# Altium integrated library magicoil_adc_board_september.IntLib: 77 symbols
Pins are listed as number, name and electrical type; pins without a type are passive.

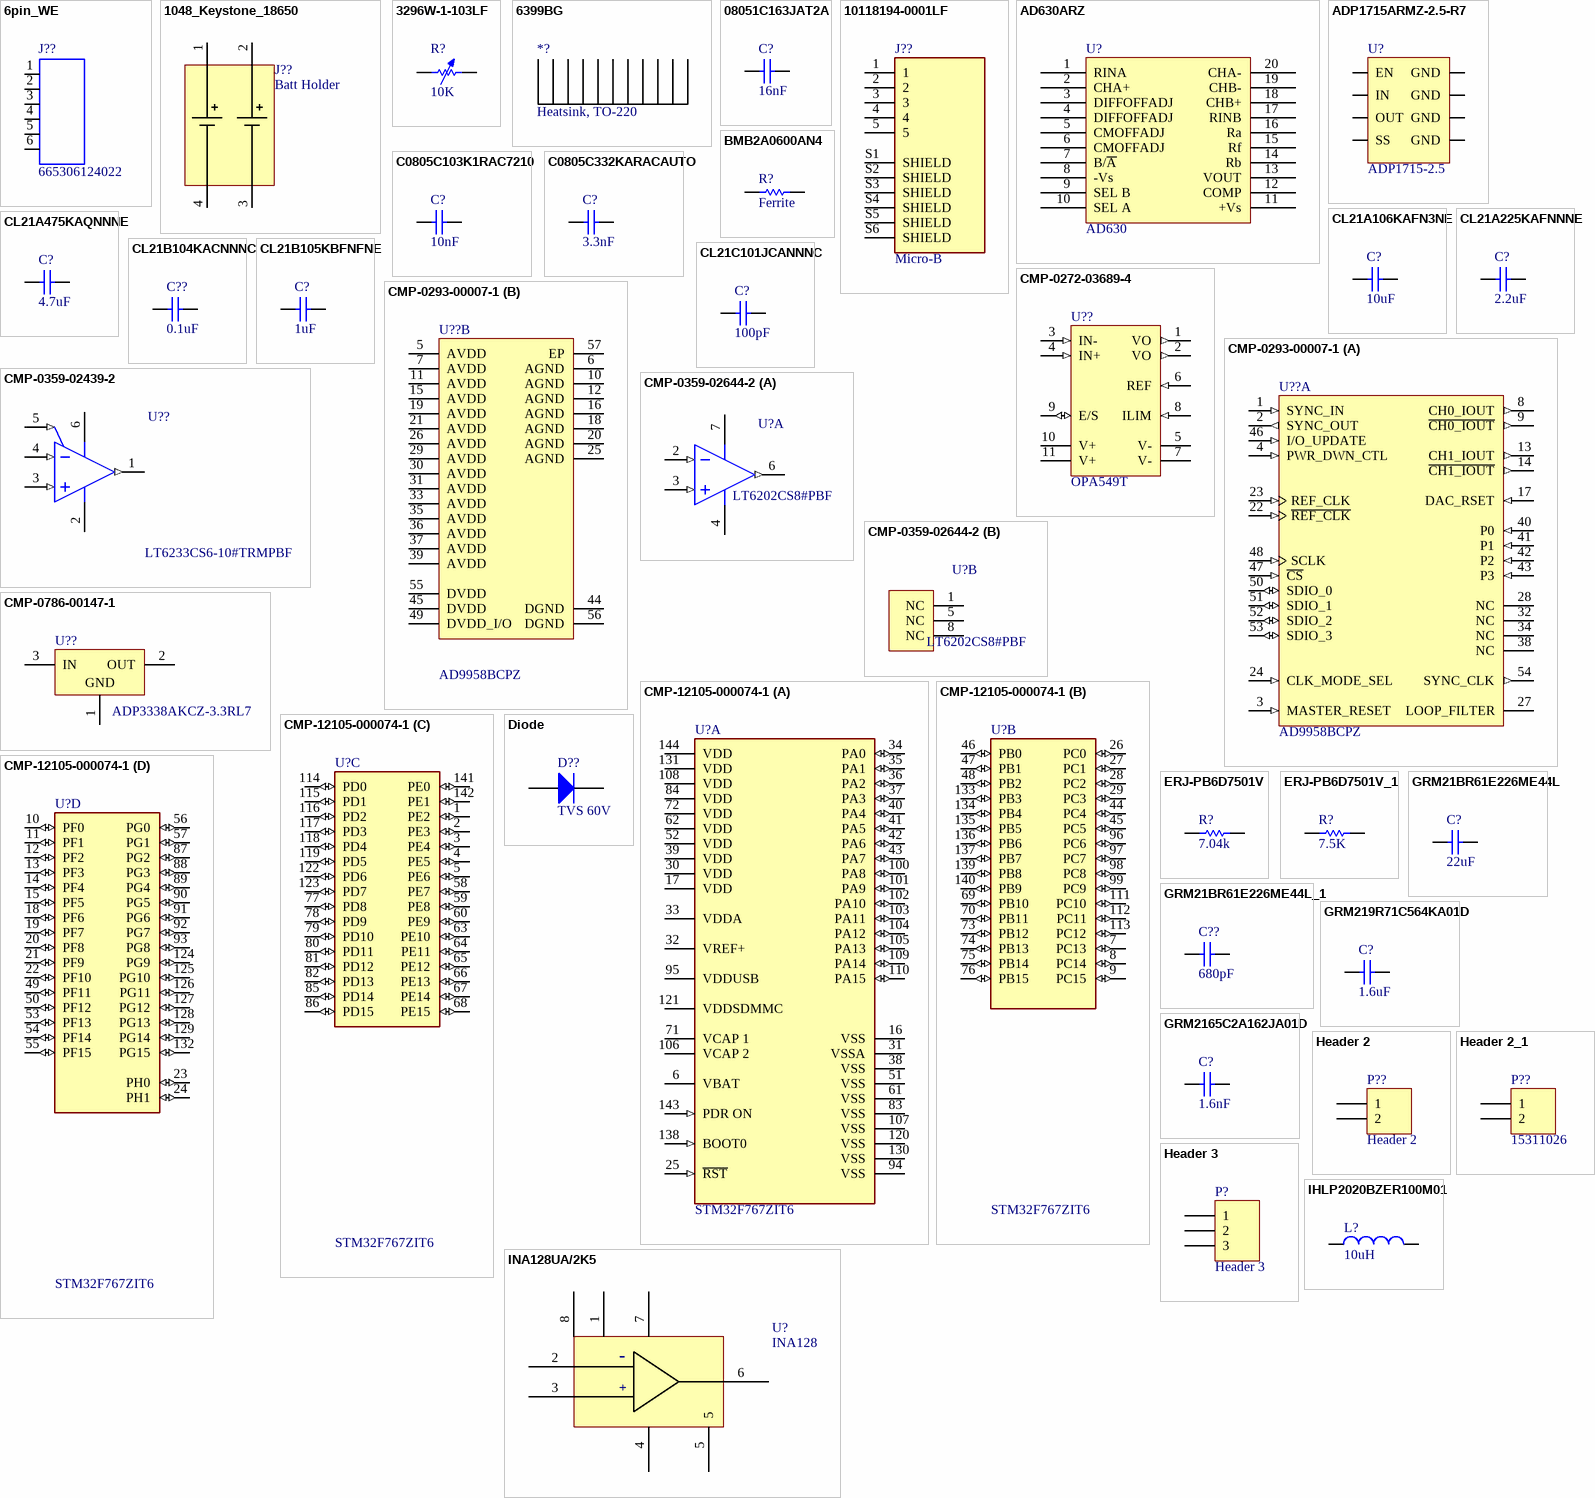
[diagram p0: symbols 6pin_WE to INA128UA/2K5]

## 6pin_WE
designator J??, comment 665306124022
Connector Header Surface Mount 6 position 0.039 (1.00mm); MF: WÃ¼rth Elektronik; Check_prices: https://www.snapeda.com/parts/665306124022/W%C3%BCrth%20Elektronik/view-part/1276936/?ref=eda; Price: None; Value: *; Availability: Warning; Package: None; Purchase-URL: https://pricing.snapeda.com/search/part/665306124022/?ref=eda; MP: 665306124022; SnapEDA_Link: https://www.snapeda.com/parts/665306124022/W%C3%BCrth%20Elektronik/view-part/1276936/?ref=snap
footprint 665306124022
pins: 1, 2, 3, 4, 5, 6

## 1048_Keystone_18650
designator J??, comment Batt Holder
pins: 1, 2, 3, 4

## 3296W-1-103LF
designator R?, comment 10K
Variable Resistor; MFGPN: 3296W-1-103LF
footprint TRIMRES
pins: 1, 2

## 6399BG
designator *?, comment Heatsink, TO-220
Heavy duty heatsink; MFGPN: 6399BG

## 08051C163JAT2A
designator C?, comment 16nF
Capacitor, 16nF, 0805, 25V; MFGPN: 08051C163JAT2A; Value: 16nF
footprint STD_0805_C
pins: 1, 2

## 10118194-0001LF
designator J??, comment Micro-B
USB - micro B USB 2.0 Receptacle Connector 5 Position Surface Mount, Right Angle; Through Hole; MFGPN: 10118194-0001LF
footprint 10118194-0001LF
pins: 1, 2, 3, 4, 5, S1 SHIELD, S2 SHIELD, S3 SHIELD, S4 SHIELD, S5 SHIELD, S6 SHIELD

## AD630ARZ
designator U?, comment AD630
RF MOD/DEMOD
footprint SOIC_20
pins: 1 RINA, 2 CHA+, 3 DIFFOFFADJ, 4 DIFFOFFADJ, 5 CMOFFADJ, 6 CMOFFADJ, 7 B/~{A}, 8 -Vs, 9 SEL B, 10 SEL A, 11 +Vs, 12 COMP, 13 VOUT, 14 Rb, 15 Rf, 16 Ra, 17 RINB, 18 CHB+, 19 CHB-, 20 CHA-

## ADP1715ARMZ-2.5-R7
designator U?, comment ADP1715-2.5
2.5V linear regulator; MFGPN: ADP1715ARMZ-2.5-R7
footprint MSOP_8
pins: 1 EN, 2 IN, 3 OUT, 4 SS, 5 GND, 6 GND, 7 GND, 8 GND

## BMB2A0600AN4
designator R?, comment Ferrite
Ferrite 0805; MFGPN: BMB2A0600AN4
footprint STD_0805_R
pins: 1, 2

## C0805C103K1RAC7210
designator C?, comment 10nF
Capacitor, 10nF, 0805; Value: .01uf; MFGPN: C0805C103K1RAC7210
footprint STD_0805_C
pins: 1, 2

## C0805C332KARACAUTO
designator C?, comment 3.3nF
Capacitor, 3.3nF, 0805; Value: .01uf; MFGPN: C0805C332KARACAUTO
footprint STD_0805_C
pins: 1, 2

## CL21A106KAFN3NE
designator C?, comment 10uF
Capacitor, 10uF, 0805; Value: .01uf; MFGPN: CL21A106KAFN3NE
footprint STD_0805_C
pins: 1, 2

## CL21A225KAFNNNE
designator C?, comment 2.2uF
Capacitor, 2.2uF, 0805; Value: .01uf; MFGPN: CL21A225KAFNNNE
footprint STD_0805_C
pins: 1, 2

## CL21A475KAQNNNE
designator C?, comment 4.7uF
Capacitor, 4.7uF, 0805; Value: .01uf; MFGPN: CL21A475KAQNNNE
footprint STD_0805_C
pins: 1, 2

## CL21B104KACNNNC
designator C??, comment 0.1uF
Capacitor, 0.1uF, 0805; Value: .01uf; MFGPN: CL21B104KACNNNC
footprint STD_0805_C
pins: 1, 2

## CL21B105KBFNFNE
designator C?, comment 1uF
Capacitor, 1uF, 0805; Value: .01uf; MFGPN: CL21B105KBFNFNE
footprint STD_0805_C
pins: 1, 2

## CL21C101JCANNNC
designator C?, comment 100pF
Capacitor, 100pF, 0805; Value: .01uf; MFGPN: CL21C101JCANNNC
footprint STD_0805_C
pins: 1, 2

## CMP-0272-03689-4
designator U??, comment OPA549T
High-Voltage, High-Current Operational Amplifier, Excellent Output Swing, 8 to 60 V, -40 to 125 degC, 11-pin FM (KV), Green (RoHS & no Sb/Br); Manufacturer: Texas Instruments; Number of Channels: 1; CMRR(Min)(dB): 80; Rating: Military; Iq per channel(Max)(mA): 35; Total Supply Voltage(Min)(+5V is 5, +/-5V is 10): 8; Packing: TUBE; GBW(Typ)(MHz): 0.9; Total Supply Voltage(Max)(+5V is 5, +/-5V is 10): 60; Vio (25C)(Max)(mV): 5; Offset Drift(Typ)(uV/C): 20; Slew Rate(Typ)(V/us): 9; IIB(Max)(pA): 500000; Sub Family: High Output Current Amplifier (>=50mA), High Supply Voltage Amplifier (>=30V), Precision Amplifier; DatasheetVersion: SBOS093E; ComponentLink1URL: http://www.ti.com/; PartNumber: OPA549T; PackageVersion: 4202503/C, 06/2009; ComponentLink2URL: http://www.ti.com/lit/ds/symlink/opa549.pdf; Eco-Plan: Green (RoHS & no Sb/Br); Mounting Technology: Through Hole; Code_JEDEC: MO-48-AA; ComponentLink2Description: Datasheet; ComponentLink3Description: Package Specification; PackageReference: KV0011A; PackageDescription: 11-Pin Plastic Flange Mount, Body 20.015 x 4.495 mm, Pitch 1.7 mm; ComponentLink1Description: Manufacturer URL; ComponentLink3URL: http://www.ti.com/litv/pdf/mpzf003b; Manufacturer Part Number: OPA549T
footprint KV0011A (FM, 11-Leads, Body 20.015x4.495mm, Pitch 1.7mm)
pins: 1 VO (out), 2 VO (out), 3 IN- (in), 4 IN+ (in), 5 V- (power), 6 REF (in), 7 V- (power), 8 ILIM (in), 9 E/S (io), 10 V+ (power), 11 V+ (power)

## CMP-0293-00007-1
designator U??, comment AD9958BCPZ
2-Channel, 500 MSPS DDS with 10-Bit DACs, Serial, CP-56-1, 260 Tray, Pb-Free; Manufacturer: Analog Devices; I Supply total (max): 105mA; Tuning Word Width (bits): 32bit; Master fclk: 500MHz; Resolution (Bits): 10bit; FS Iout (mA nom): 10mA; Compliance Range (V): 2.3V; REFCLK Multiplier: Yes; PackageVersion: 112805-0; I/O Interface: Serial; ComponentLink2Description: Datasheet; ComponentLink1Description: Manufacturer URL; ComponentLink1URL: www.analog.com; PackageDescription: 56-Lead Lead Frame Chip Scale Package [LFCSP_VQ]; ComponentLink2URL: http://www.analog.com/static/imported-files/data_sheets/AD9958.pdf; ComponentLink3URL: http://www.analog.com/static/imported-files/packages/32698137492825CP_56_1.pdf; PackageReference: CP-56-1; Code_JEDEC: MO-220-VLLD-2; DatasheetVersion: Rev. A; ComponentLink3Description: Package Specification; Manufacturer Part Number: AD9958BCPZ
footprint ADI-CP-56-1_N (QFN, 56-Leads, Body 8x8mm, Pitch 0.5mm, Thermal Pad 6.1x6.1mm, IPC Medium Density)
footprint ADI-CP-56-1_L (QFN, 56-Leads, Body 8x8mm, Pitch 0.5mm, Thermal Pad 6.1x6.1mm, IPC High Density)
footprint ADI-CP-56-1_M (QFN, 56-Leads, Body 8x8mm, Pitch 0.5mm, Thermal Pad 6.1x6.1mm, IPC Low Density)
part A pins: 1 SYNC_IN (in) "Synchronizes Multiple AD9911 Devices. Connects to the SYNC_OUT pin of the master AD9911 device.", 2 SYNC_OUT (out) "Synchronizes Multiple AD9911 Devices. Connects to the SYNC_IN pin of the slave AD9911 device.", 3 MASTER_RESET (in) "Active High Reset Pin. Asserting this pin forces the internal registers to the default state shown in the Register Map section.", 4 PWR_DWN_CTL (in) "External Power-Down Control. See the Power Down Functions section for details.", 8 CH0_IOUT (out) "True DAC Output. Terminates into AVDD.", 9 ~{CH0_IOUT} (out) "Complementary DAC Output. Terminates into AVDD.", 13 CH1_IOUT (out) "True DAC Output. Terminates into AVDD.", 14 ~{CH1_IOUT} (out) "Complementary DAC Output. Terminates into AVDD.", 17 DAC_RSET (in) "Establishes the Reference Current for the DAC. A 1.91 k ohm resistor (nominal) is connected from Pin 17 to AGND.", 22 ~{REF_CLK} (in) "Complementary Reference Clock/Oscillator Input. When the REF_CLK is operated in single-ended mode, this pin should be decoupled to AVDD or AGND with a  0.1 uF capacitor.", 23 REF_CLK (in) "Reference Clock/Oscillator Input. When the REF_CLK operates in single-ended mode, Pin 23 is the input. See the Modes of Operation section for the reference clock configuration.", 24 CLK_MODE_SEL (in) "Control Pin for the Oscillator. CAUTION: Do not drive this pin beyond 1.8 V. When high (1.8 V), the oscillator is enabled to accept a crystal as the REF_CLK source. [see datasheet]", 27 LOOP_FILTER "Connects to the External Zero Compensation Network of the PLL Loop Filter. Typically, the network consists of a 0  ohm resistor in series with a 680 pF capacitor tied to AVDD.", 28 NC "No Connection. Analog Devices recommends leaving these pins floating.", 32 NC "No Connection. Analog Devices recommends leaving these pins floating.", 34 NC "No Connection.", 38 NC "No Connection.", 40 P0 (in) "These data pins are used for modulation (FSK, PSK, ASK), start/stop for the sweep accumulator, and ramping up/down the output amplitude. [see datasheet]", 41 P1 (in) "These data pins are used for modulation (FSK, PSK, ASK), start/stop for the sweep accumulator, and ramping up/down the output amplitude. [see datasheet]", 42 P2 (in) "These data pins are used for modulation (FSK, PSK, ASK), start/stop for the sweep accumulator, and ramping up/down the output amplitude. [see datasheet]", 43 P3 (in) "These data pins are used for modulation (FSK, PSK, ASK), start/stop for the sweep accumulator, and ramping up/down the output amplitude. [see datasheet]", 46 I/O_UPDATE (in) "A rising edge triggers data transfer from the I/O port buffer to active registers. I/O_UPDATE is synchronous to the SYNC_CLK (Pin 54). [see datasheet]", 47 ~{CS} (in) "The active low chip select allows multiple devices to share a common I/O bus (SPI).", 48 SCLK (in) "Data Clock for I/O Operations. Data bits are written on the rising edge of SCLK and read on the falling edge of SCLK.", 50 SDIO_0 (io) "Data pin SDIO_0 is dedicated to the I/O port only.", 51 SDIO_1 (io) "Data pins SDIO_1:3 can be used for the I/O port or to initiate a ramp up/ramp down (RU/RD) of the DAC output amplitude.", 52 SDIO_2 (io) "Data pins SDIO_1:3 can be used for the I/O port or to initiate a ramp up/ramp down (RU/RD) of the DAC output amplitude.", 53 SDIO_3 (io) "Data pins SDIO_1:3 can be used for the I/O port or to initiate a ramp up/ramp down (RU/RD) of the DAC output amplitude.", 54 SYNC_CLK (out) "The SYNC_CLK, which runs at 1/4 the system clock rate, can be disabled. I/O_UPDATE and profile changes (Pin 40 to Pin 43) are synchronous to the SYNC_CLK. [see datasheet]"
part B pins: 5 AVDD (power) "Analog Power Supply Pins (1.8 V).", 6 AGND (power) "Analog Ground Pins.", 7 AVDD (power) "Analog Power Supply Pins (1.8 V).", 10 AGND (power) "Analog Ground Pins.", 11 AVDD (power) "Analog Power Supply Pins (1.8 V).", 12 AGND (power) "Analog Ground Pins.", 15 AVDD (power) "Analog Power Supply Pins (1.8 V).", 16 AGND (power) "Analog Ground Pins.", 18 AGND (power) "Analog Ground Pins.", 19 AVDD (power) "Analog Power Supply Pins (1.8 V).", 20 AGND (power) "Analog Ground Pins.", 21 AVDD (power) "Analog Power Supply Pins (1.8 V).", 25 AGND (power) "Analog Ground Pins.", 26 AVDD (power) "Analog Power Supply Pins (1.8 V).", 29 AVDD (power) "Analog Power Supply Pins (1.8 V).", 30 AVDD (power) "Analog Power Supply Pins (1.8 V).", 31 AVDD (power) "Analog Power Supply Pins (1.8 V).", 33 AVDD (power) "Analog Power Supply Pins (1.8 V).", 35 AVDD (power) "Analog Power Supply Pins (1.8 V).", 36 AVDD (power) "Analog Power Supply Pins (1.8 V).", 37 AVDD (power) "Analog Power Supply Pins (1.8 V).", 39 AVDD (power) "Analog Power Supply Pins (1.8 V).", 44 DGND (power) "Digital Power Ground Pins.", 45 DVDD (power) "Digital Power Supply Pins (1.8 V).", 49 DVDD_I/O (power) "3.3 V Digital Power Supply for SPI Port and Digital I/O.", 55 DVDD (power) "Digital Power Supply Pins (1.8 V).", 56 DGND (power) "Digital Power Ground Pins.", 57 EP (power) "Exposed pad"

## CMP-0359-02439-2
designator U??, comment LT6233CS6-10#TRMPBF
Single Channel, Ultralow Noise, Low Power, High Speed Operational Amplifier, 375 MHz Typical GBW, 80 V/us Typical SR, 3 to 12.6 V, 6-Pin SOT23 (S6-6), Commercial, Pb-Free, Mini Reel; Linear Technology Part Number: LT6233; Manufacturer: Linear Technology; Manufacturer: Analog Devices / Linear Technology; Vs Max (V): 12.6; Vos (mV) Guaranteed: 0.5; Vos (mV) Typical: 0.1; Channels (#): 1; Vs Min (V): 3; GBW (MHz) Typical: 60; SR (V/us) Typical: 15; Is (mA) Typical: 1.15; ComponentLink3Description: Package Specification; Type: VFB; Mounting Technology: Surface Mount; PackageDescription: 6-Pin Plastic TSOT-23, Body 2.9 x 1.63 mm, Pitch 0.95 mm; ComponentLink2URL: http://cds.linear.com/docs/en/datasheet/623345fc.pdf; ComponentLink1URL: http://www.linear.com/; Packing: Mini Reel; ComponentLink1Description: Manufacturer URL; PartNumber: LT6233CS6-10#TRMPBF; ComponentLink3URL: http://cds.linear.com/docs/en/packaging/SOT_6_05-08-1636.pdf; DatasheetVersion: Rev. C; Code_JEDEC: MO-193; RevisionNote: URLs updated; RoHS: Pb-Free; PackageReference: LT-S6-6-TSOT-23; ComponentLink2Description: Datasheet; Manufacturer Part Number: LT6233CS6-10#TRMPBF
footprint LT-S6-6-TSOT-23_N (SOT23, 6-Leads, Body 2.90x1.63mm, Pitch 0.95mm, IPC Medium Density)
footprint LT-S6-6-TSOT-23_M (SOT23, 6-Leads, Body 2.90x1.63mm, Pitch 0.95mm, IPC Low Density)
footprint LT-S6-6-TSOT-23_L (SOT23, 6-Leads, Body 2.90x1.63mm, Pitch 0.95mm, IPC High Density)
pins: 1 OUT (out), 2 V- (power), 3 +IN (in), 4 -IN (in), 5 ~{ENABLE} (in), 6 V+ (power)

## CMP-0359-02644-2
designator U?, comment LT6202CS8#PBF
Single Channel, Low Noise, High Speed Operational Amplifier, RRIO, 100 MHz Typical GBW, 25 V/us Typical SR, 2.5 to 12.6 V, 8-Pin SOIC (S8-8), Commercial, Pb-Free; Linear Technology Part Number: LT6202; Manufacturer: Linear Technology; Manufacturer: Analog Devices / Linear Technology; Channels (#): 1; Vs Min (V): 2.5; Is (mA) Typical: 2.8; Vos (mV) Typical: 0.1; Vos (mV) Guaranteed: 0.5; GBW (MHz) Typical: 100; Vs Max (V): 12.6; SR (V/us) Typical: 25; RevisionNote: URLs updated; ComponentLink2URL: http://cds.linear.com/docs/en/datasheet/620234fd.pdf; PackageDescription: 8-Pin Plastic Small Outline, Body 4.9 x 3.9 mm, Pitch 1.27 mm; RoHS: Pb-Free; ComponentLink3Description: Package Specification; ComponentLink2Description: Datasheet; PackageVersion: Rev G; ComponentLink3URL: http://cds.linear.com/docs/en/packaging/05081610_G_SO8.pdf; ComponentLink1Description: Manufacturer URL; DatasheetVersion: Rev. D; PackageReference: LT-S8-8; Mounting Technology: Surface Mount; ComponentLink1URL: http://www.linear.com/; Type: VFB; PartNumber: LT6202CS8#PBF; Manufacturer Part Number: LT6202CS8#PBF
footprint LT-S8-8_N (SOIC, 8-Leads, Body 4.9x3.9mm, Pitch 1.27mm, IPC Medium Density)
footprint LT-S8-8_M (SOIC, 8-Leads, Body 4.9x3.9mm, Pitch 1.27mm, IPC Low Density)
footprint LT-S8-8_L (SOIC, 8-Leads, Body 4.9x3.9mm, Pitch 1.27mm, IPC High Density)
part A pins: 2 -IN (in), 3 +IN (in), 4 V- (power), 6 OUT (out), 7 V+ (power)
part B pins: 1 NC (power), 5 NC (power), 8 NC (power)

## CMP-0786-00147-1
designator U??, comment ADP3338AKCZ-3.3RL7
High Accuracy, Ultralow IQ, 1 A, anyCAP(R) Low Dropout Regulator, 2.7 to 8 V Vin, 3.3 V Vout, Industrial, 3-pin SOT223 (KC-3), Reel; Manufacturer: Analog Devices; Supply Current IGND @ Small Load: 110uA; Vin (min) (V): 2.7; Preset Vout Values (V): 3.3; Iout max: 1A; Vin (max) (V): 8; PackageDescription: 3-Pin Small Outline Transistor Package, Body 3.5 x 6.5 mm, Pitch 2.3 mm; Code_JEDEC: TO-261-AA; ComponentLink4Description: URL Link1; ComponentLink4URL: Product URL:http://www.analog.com/en/ADP3338/productSearch.html; PackageVersion: 11-20-2012-B, 11/2012; DatasheetVersion: Rev. B; ComponentLink3URL: http:/www.analog.com/static/imported-files/packages/PKG_PDF/SOT_223(KC)/KC_3.pdf; Mounting Technology: Surface Mount; ComponentLink2URL: http://www.analog.com/static/imported-files/data_sheets/ADP3338.pdf; PartNumber: ADP3338AKCZ-3.3RL7; ComponentLink2Description: Datasheet; ComponentLink3Description: Package Specification; ComponentLink1Description: Manufacturer URL; Packing: Reel; PackageReference: KC-3; ComponentLink1URL: http://www.analog.com/en/index.html; Manufacturer Part Number: ADP3338AKCZ-3.3RL7
footprint ADI-KC-3_M (SOT223, 4-Leads, Body 6.5x3.5mm, Pitch 2.3mm, IPC Low Density)
footprint ADI-KC-3_L (SOT223, 4-Leads, Body 6.5x3.5mm, Pitch 2.3mm, IPC High Density)
footprint ADI-KC-3_N (SOT223, 4-Leads, Body 6.5x3.5mm, Pitch 2.3mm, IPC Medium Density)
pins: 1 GND (power) "Ground Pin.", 2 OUT (power) "Regulator Output. Bypass to ground with a 1 uF or larger capacitor.", 3 IN (power) "Regulator Input. Bypass to ground with a 1 uF or larger capacitor."

## CMP-12105-000074-1
designator U?, comment STM32F767ZIT6
IC MCU 32BIT 2MB FLASH 144LQFP; Manufacturer: STMicroelectronics; Ram Size: 512KBytes; Number Of I/Os: 114; Core Architecture: ARM Cortex-M7; Memory Size: 2048KBytes; Standoff Height: 0.05mm; Number Of Adc Channels: 24; Max Supply Voltage: 3.6V; Number Of Pwm Channels: 4; Min Supply Voltage: 1.7V; Max Junction Temp: +105°C; Number Of Timers/Counters: 15; Number Of Usb Channels: 1; Interface: I2C,SPI,UART,USART,EBI/EMI,CAN,USB,LIN,IrDA,Ethernet,I2S; Frequency: 216MHz; Data Bus Width: 32bits; Number Of Spi Channels: 6; Number Of A/D Converters: 3; Octopart: https://octopart.com/stm32f767zit6-stmicroelectronics-70527068; Category: IC; Device Class L2: Embedded Processors and Controllers; Package: LQFP144-1A; RoHS: TRUE; Digikey Description: IC MCU 32BIT 2MB FLASH 144LQFP; ComponentLink2Description: Datasheet; Automotive: No; Mouser Description: ARM Microcontrollers - MCU High-performance and DSP with FPU, ARM Cortex-M7 MCU with 2 Mbytes Flash, 216 MHz CPU, Art Accelerator, L1 cache, SDRAM,; Ambient Temperature Range Low: -40°C; Ambient Temperature Range High: +85°C; Memory Type: FLASH; ComponentLink2URL: https://www.st.com/resource/en/datasheet/stm32f767zi.pdf; Number Of Uart Channels: 4; Temperature: -40°C to +85°C; Device Class L3: Microcontrollers; Device Class L1: Integrated Circuits (ICs); Temperature Range Low: -40°C; Temperature Range High: +85°C; Lead Free: Yes; Number Of I2C Channels: 4; Number Of Ethernet Channels: 1; Height: 1.6mm; Number Of Cores: 1; Manufacturer Part Number: STM32F767ZIT6; Ipc Land Pattern Name: QFP50P2200X2200X160-144
footprint FP-LQFP144-1A-MFG
footprint FP-LQFP144-1A-IPC_C
footprint FP-LQFP144-1A-IPC_B
footprint FP-LQFP144-1A-IPC_A
part A pins: 6 VBAT (power), 16 VSS (power), 17 VDD (power), 25 ~{RST} (in), 30 VDD (power), 31 VSSA (power), 32 VREF+ (power), 33 VDDA (power), 34 PA0 (io), 35 PA1 (io), 36 PA2 (io), 37 PA3 (io), 38 VSS (power), 39 VDD (power), 40 PA4 (io), 41 PA5 (io), 42 PA6 (io), 43 PA7 (io), 51 VSS (power), 52 VDD (power), 61 VSS (power), 62 VDD (power), 71 VCAP 1 (power), 72 VDD (power), 83 VSS (power), 84 VDD (power), 94 VSS (power), 95 VDDUSB (power), 100 PA8 (io), 101 PA9 (io), 102 PA10 (io), 103 PA11 (io), 104 PA12 (io), 105 PA13 (io), 106 VCAP 2 (power), 107 VSS (power), 108 VDD (power), 109 PA14 (io), 110 PA15 (io), 120 VSS (power), 121 VDDSDMMC (power), 130 VSS (power), 131 VDD (power), 138 BOOT0 (in), 143 PDR ON (in), 144 VDD (power)
part B pins: 7 PC13 (io), 8 PC14 (io), 9 PC15 (io), 26 PC0 (io), 27 PC1 (io), 28 PC2 (io), 29 PC3 (io), 44 PC4 (io), 45 PC5 (io), 46 PB0 (io), 47 PB1 (io), 48 PB2 (io), 69 PB10 (io), 70 PB11 (io), 73 PB12 (io), 74 PB13 (io), 75 PB14 (io), 76 PB15 (io), 96 PC6 (io), 97 PC7 (io), 98 PC8 (io), 99 PC9 (io), 111 PC10 (io), 112 PC11 (io), 113 PC12 (io), 133 PB3 (io), 134 PB4 (io), 135 PB5 (io), 136 PB6 (io), 137 PB7 (io), 139 PB8 (io), 140 PB9 (io)
part C pins: 1 PE2 (io), 2 PE3 (io), 3 PE4 (io), 4 PE5 (io), 5 PE6 (io), 58 PE7 (io), 59 PE8 (io), 60 PE9 (io), 63 PE10 (io), 64 PE11 (io), 65 PE12 (io), 66 PE13 (io), 67 PE14 (io), 68 PE15 (io), 77 PD8 (io), 78 PD9 (io), 79 PD10 (io), 80 PD11 (io), 81 PD12 (io), 82 PD13 (io), 85 PD14 (io), 86 PD15 (io), 114 PD0 (io), 115 PD1 (io), 116 PD2 (io), 117 PD3 (io), 118 PD4 (io), 119 PD5 (io), 122 PD6 (io), 123 PD7 (io), 141 PE0 (io), 142 PE1 (io)
part D pins: 10 PF0 (io), 11 PF1 (io), 12 PF2 (io), 13 PF3 (io), 14 PF4 (io), 15 PF5 (io), 18 PF6 (io), 19 PF7 (io), 20 PF8 (io), 21 PF9 (io), 22 PF10 (io), 23 PH0 (io), 24 PH1 (io), 49 PF11 (io), 50 PF12 (io), 53 PF13 (io), 54 PF14 (io), 55 PF15 (io), 56 PG0 (io), 57 PG1 (io), 87 PG2 (io), 88 PG3 (io), 89 PG4 (io), 90 PG5 (io), 91 PG6 (io), 92 PG7 (io), 93 PG8 (io), 124 PG9 (io), 125 PG10 (io), 126 PG11 (io), 127 PG12 (io), 128 PG13 (io), 129 PG14 (io), 132 PG15 (io)

## Diode
designator D??, comment TVS 60V
Default Diode; Published: 8-Jun-2000; LatestRevisionDate: 17-Jul-2002; LatestRevisionNote: Re-released for DXP Platform.; PackageVersion: Sep-1996; PackageReference: SMC; Publisher: Altium Limited; PackageDescription: DO-214-AB/SMC; 2 C-Bend Leads; Body 7.9 x 5.9 mm, inc. leads (LxW); Code_JEDEC: DO-214-AB
footprint SMC (DO-214-AB/SMC; 2 C-Bend Leads; Body 7.9 x 5.9 mm, inc. leads (LxW))
simulation model DIODE (Diode)
signal-integrity model Diode
footprint TVSDIODE-DO214AA
pins: 1 A, 2 K

## ERJ-PB6D7501V
designator R?, comment 7.04k
7.5K 1% 1/4W; Value: 1K; MFGPN: ERJ-PB6D7501V
footprint STD_0805_R
pins: 1, 2

## ERJ-PB6D7501V_1
designator R?, comment 7.5K
7.5K 1% 1/4W; Value: 1K; MFGPN: ERJ-PB6D7501V
footprint STD_0805_R
pins: 1, 2

## GRM21BR61E226ME44L
designator C?, comment 22uF
Capacitor, 22uF, 0805, 25V; Value: .01uf; MFGPN: GRM21BR61E226ME44L
footprint STD_0805_C
pins: 1, 2

## GRM21BR61E226ME44L_1
designator C??, comment 680pF
Capacitor, 22uF, 0805, 25V; Value: .01uf; MFGPN: GRM21BR61E226ME44L
footprint STD_0805_C
footprint 0402 (Chip Capacitor, Body 1.0x0.5mm, IPC High Density)
pins: 1, 2

## GRM219R71C564KA01D
designator C?, comment 1.6uF
Capacitor, 560nF, 0805, 25V; MFGPN: GRM219R71C564KA01D; Value: 560nF
footprint STD_0805_C
pins: 1, 2

## GRM2165C2A162JA01D
designator C?, comment 1.6nF
Capacitor, 1.6nF, 0805, 25V; MFGPN: GRM2165C2A162JA01D; Value: 1.6nF
footprint STD_0805_C
pins: 1, 2

## Header 2
designator P??
Header, 2-Pin; LatestRevisionDate: 17-Jul-2002; LatestRevisionNote: Re-released for DXP Platform.; Publisher: Altium Limited
footprint HDR1X2 (Connector; Header; 2 Position)
signal-integrity model Connector
pins: 1, 2

## Header 2_1
designator P??, comment 15311026
Header, 2-Pin; LatestRevisionDate: 17-Jul-2002; LatestRevisionNote: Re-released for DXP Platform.; Publisher: Altium Limited
footprint HDR1X2 (Connector; Header; 2 Position)
signal-integrity model Connector
pins: 1, 2

## Header 3
designator P?
Header, 3-Pin; LatestRevisionDate: 17-Jul-2002; LatestRevisionNote: Re-released for DXP Platform.; Publisher: Altium Limited
footprint HDR1X3 (Connector; Header; 3 Position)
signal-integrity model Connector
pins: 1, 2, 3

## IHLP2020BZER100M01
designator L?, comment 10uH
Inductor 10uH VISHAY; MFGPN: IHLP2020BZER100M01
footprint IHLP2020BZER100M01
pins: 1, 2

## INA128UA/2K5
designator U?, comment INA128
Instrumentation Amp, Generic; MFGPN: INA128UA/2K5
footprint SOIC_8
pins: 1 Gain, 2, 3, 4, 5, 6, 7, 8 Gain
text: -; +

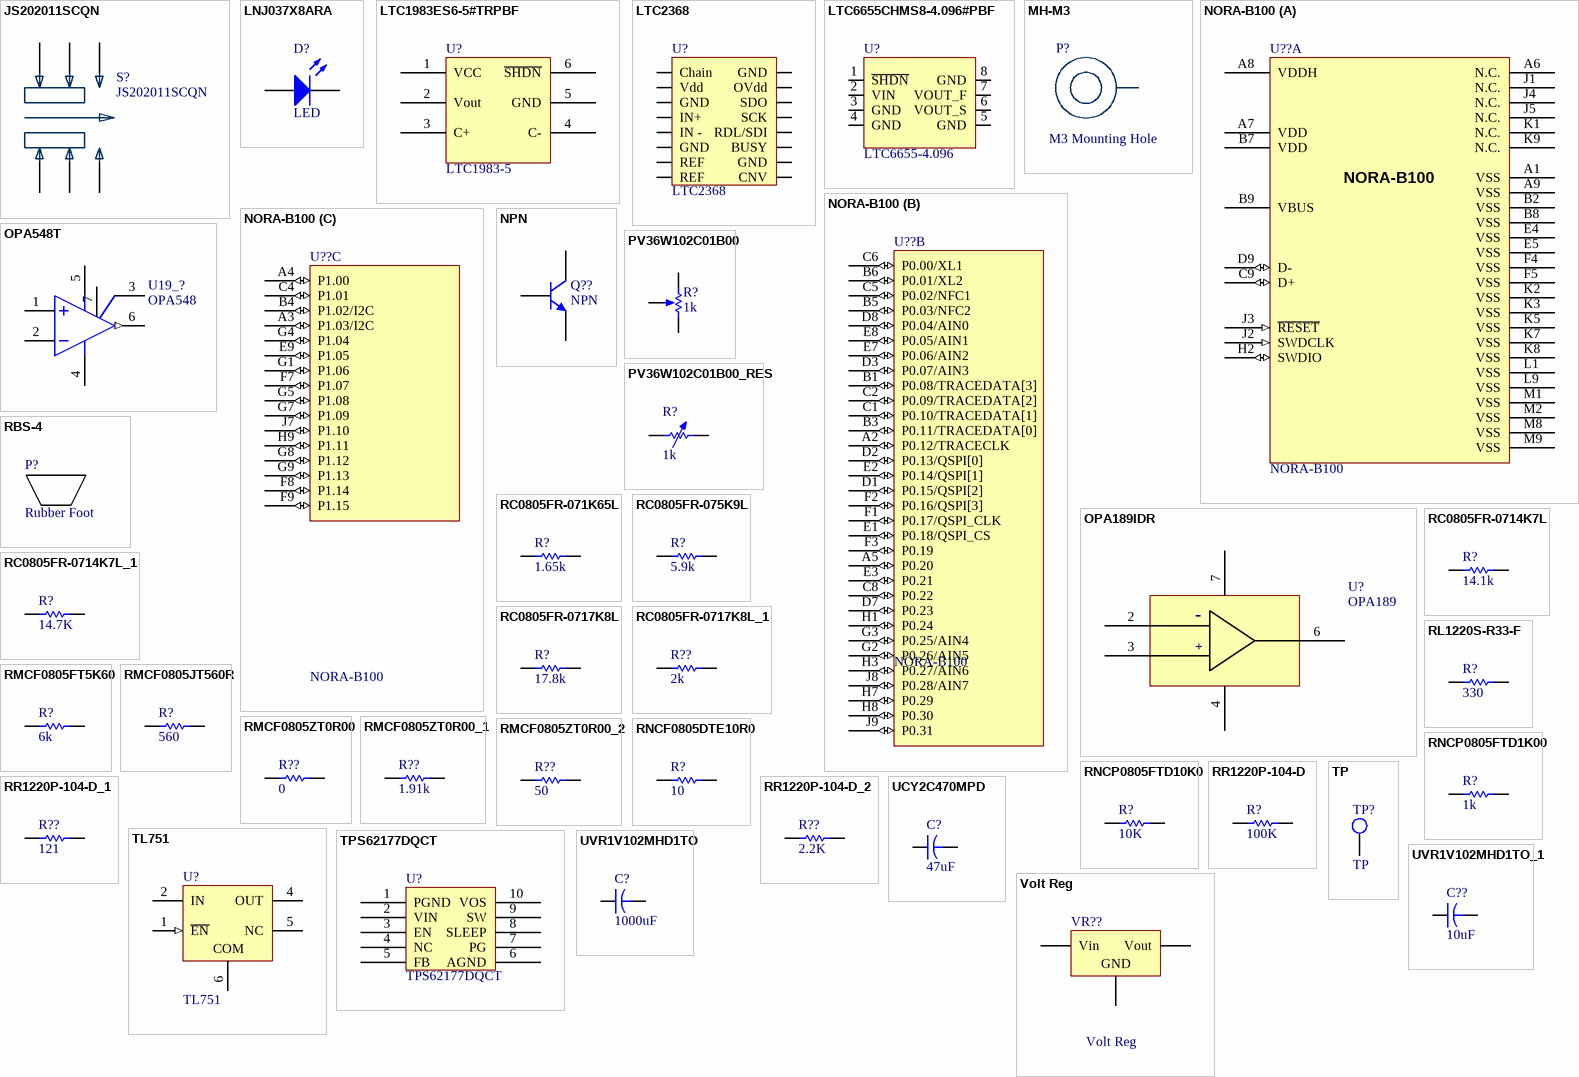
[diagram p1: symbols JS202011SCQN to Volt Reg]

## JS202011SCQN
designator S?
Slide Switch DPDT Surface Mount; MF: C&K; MFGPN: JS202011SCQN; Value: *; Package: None; SnapEDA_Link: https://www.snapeda.com/parts/JS202011SCQN/C%26K/view-part/592122/?ref=snap; Digi-Key_Part_Number: 401-2002-1-ND; Digi-Key_Purchase_URL: https://www.digikey.com/product-detail/en/c-k/JS202011SCQN/401-2002-1-ND/1640098?utm_source=snapeda&utm_medium=aggregator&utm_campaign=symbol
footprint SW_JS202011SCQN
pins: 1, 2, 3, 4, 5, 6

## LNJ037X8ARA
designator D?, comment LED
Typical LED; MFGPN: LNJ037X8ARA
footprint STD_LED
pins: 1, 2

## LTC1983ES6-5#TRPBF
designator U?, comment LTC1983-5
-5V, DC-DC Converter; MFGPN: LTC1983ES6-5#TRPBF
footprint SOT23-6_M (SOT23, 6-Leads, Body 2.9x1.6mm, Pitch 0.95mm, Lead Span 2.7mm, IPC Low Density)
pins: 1 VCC, 2 Vout, 3 C+, 4 C-, 5 GND, 6 ~{SHDN}

## LTC2368
designator U?
footprint MSOP_16
pins: 1 Chain, 2 Vdd, 3 GND, 4 IN+, 5 IN -, 6 GND, 7 REF, 8 REF, 9 CNV, 10 GND, 11 BUSY, 12 RDL/SDI, 13 SCK, 14 SDO, 15 OVdd, 16 GND

## LTC6655CHMS8-4.096#PBF
designator U?, comment LTC6655-4.096
Voltage Reference 4.096V; MFGPN: LTC6655CHMS8-4.096#PBF
footprint MSOP_8
pins: 1 ~{SHDN}, 2 VIN, 3 GND, 4 GND, 5 GND, 6 VOUT_S, 7 VOUT_F, 8 GND

## MH-M3
designator P?, comment M3 Mounting Hole
footprint MH-M3
pins: 1

## NORA-B100
designator U??
u-blox NORA-B100 Bluetooth 5.2 LE module - dual core; Manufacturer P/N: NORA-B100-00B; Part Description: Stand-alone Bluetooth low energy module - dual core; Body Size: 14.3 mm x 10.4 mm; Part Number: NORA-B100; Part Name: NORA-B100; Part_Type: Module; Manufacturer: u-blox; Height: 1.8 mm; Value: NORA-B100
footprint NORA_LGA82R_1430X1040X180_UFL (NORA LGA, 82pin ,1.1mm Pitch, 14.3mm x 10.4mm)
part A pins: A1 VSS (power), A6 N.C. (hiz), A7 VDD (power), A8 VDDH (power), A9 VSS (power), B2 VSS (power), B7 VDD (power), B8 VSS (power), B9 VBUS (power), C9 D+ (io), D9 D- (io), E4 VSS (power), E5 VSS (power), F4 VSS (power), F5 VSS (power), H2 SWDIO (io), J1 N.C. (hiz), J2 SWDCLK (in), J3 ~{RESET} (in), J4 N.C. (hiz), J5 N.C. (hiz), K1 N.C. (hiz), K2 VSS (power), K3 VSS (power), K5 VSS (power), K7 VSS (power), K8 VSS (power), K9 N.C. (hiz), L1 VSS (power), L9 VSS (power), M1 VSS (power), M2 VSS (power), M8 VSS (power), M9 VSS (power)
part B pins: A2 P0.12/TRACECLK (io), A5 P0.20 (io), B1 P0.08/TRACEDATA[3] (io), B3 P0.11/TRACEDATA[0] (io), B5 P0.03/NFC2 (io), B6 P0.01/XL2 (io), C1 P0.10/TRACEDATA[1] (io), C2 P0.09/TRACEDATA[2] (io), C5 P0.02/NFC1 (io), C6 P0.00/XL1 (io), C8 P0.22 (io), D1 P0.15/QSPI[2] (io), D2 P0.13/QSPI[0] (io), D3 P0.07/AIN3 (io), D7 P0.23 (io), D8 P0.04/AIN0 (io), E1 P0.18/QSPI_CS (io), E2 P0.14/QSPI[1] (io), E3 P0.21 (io), E7 P0.06/AIN2 (io), E8 P0.05/AIN1 (io), F1 P0.17/QSPI_CLK (io), F2 P0.16/QSPI[3] (io), F3 P0.19 (io), G2 P0.26/AIN5 (io), G3 P0.25/AIN4 (io), H1 P0.24 (io), H3 P0.27/AIN6 (io), H7 P0.29 (io), H8 P0.30 (io), J8 P0.28/AIN7 (io), J9 P0.31 (io)
part C pins: A3 P1.03/I2C (io), A4 P1.00 (io), B4 P1.02/I2C (io), C4 P1.01 (io), E9 P1.05 (io), F7 P1.07 (io), F8 P1.14 (io), F9 P1.15 (io), G1 P1.06 (io), G4 P1.04 (io), G5 P1.08 (io), G7 P1.09 (io), G8 P1.12 (io), G9 P1.13 (io), H9 P1.11 (io), J7 P1.10 (io)

## NPN
designator Q??
NPN Bipolar Transistor; Published: 8-Jun-2000; LatestRevisionDate: 17-Jul-2002; LatestRevisionNote: Re-released for DXP Platform.; PackageReference: TO-226-AA; Publisher: Altium Limited; PackageDescription: TO, Flat Index; 3 In-Line, Axial Leads; Body Dia. 4.8mm; Leads 0.55 x 0.51 mm (max); Code_JEDEC: TO-226-AA
footprint TO-226-AA (TO, Flat Index; 3 In-Line, Axial Leads; Body Dia. 4.8mm; Leads 0.55 x 0.51 mm (max))
simulation model NPN
signal-integrity model NPN
footprint TO-220-3
pins: 1 C, 2 B, 3 E

## OPA189IDR
designator U?, comment OPA189
Precision OpAmp, Generic; MFGPN: OPA189IDR
footprint SOIC_8
pins: 2, 3, 4, 6, 7
text: -; +

## OPA548T
designator U19_?, comment OPA548
High power op amp; MFGPN: OPA548T
footprint TO-220-7
pins: 1 IN-, 2 IN+, 3 TAB, 4 V- (power), 5 V+ (power), 6 OUT (out), 7 OS NUL

## PV36W102C01B00
designator R?, comment 1k
Potentiometer, 1k; MFGPN: PV36W102C01B00
footprint TRIMPOT
pins: 1 TOP, 2 BOT, 3 TAP
1 alternate drawing of the same symbol

## PV36W102C01B00_RES
designator R?, comment 1k
Variable resistor 1k; MFGPN: PV36W102C01B00
footprint TRIMRES
pins: 1, 2
1 alternate drawing of the same symbol

## RBS-4
designator P?, comment Rubber Foot
MFGPN: RBS-4

## RC0805FR-071K65L
designator R?, comment 1.65k
MFGPN: RC0805FR-071K65L; Value: 1.65k
footprint STD_0805_R
pins: 1, 2

## RC0805FR-075K9L
designator R?, comment 5.9k
MFGPN: RC0805FR-075K9L; Value: 5.9k
footprint STD_0805_R
pins: 1, 2

## RC0805FR-0714K7L
designator R?, comment 14.1k
14.7K 1% 1/4W; Value: 1K; MFGPN: RC0805FR-0714K7L
footprint STD_0805_R
pins: 1, 2

## RC0805FR-0714K7L_1
designator R?, comment 14.7K
14.7K 1% 1/4W; Value: 1K; MFGPN: RC0805FR-0714K7L
footprint STD_0805_R
pins: 1, 2

## RC0805FR-0717K8L
designator R?, comment 17.8k
MFGPN: RC0805FR-0717K8L; Value: 17.8k
footprint STD_0805_R
pins: 1, 2

## RC0805FR-0717K8L_1
designator R??, comment 2k
17.8k; MFGPN: RC0805FR-0717K8L; Value: 17.8k
footprint STD_0805_R
pins: 1, 2

## RL1220S-R33-F
designator R?, comment 330
330 1% 1/3W; Value: 1K; MFGPN: RL1220S-R33-F
footprint STD_0805_R
pins: 1, 2

## RMCF0805FT5K60
designator R?, comment 6k
6K 1% 1/4W; MFGPN: RMCF0805FT5K60; Value: 6k
footprint STD_0805_R
pins: 1, 2

## RMCF0805JT560R
designator R?, comment 560
MFGPN: RMCF0805JT560R; Value: 560
footprint STD_0805_R
pins: 1, 2

## RMCF0805ZT0R00
designator R??, comment 0
0 ohm jumper; MFGPN: RMCF0805ZT0R00; Value: 0
footprint STD_0805_R
pins: 1, 2

## RMCF0805ZT0R00_1
designator R??, comment 1.91k
0 ohm jumper; Value: 0; MFGPN: RMCF0805ZT0R00
footprint STD_0805_R
footprint 0402 (Chip Capacitor, Body 1.0x0.5mm, IPC High Density)
pins: 1, 2

## RMCF0805ZT0R00_2
designator R??, comment 50
0 ohm jumper; Value: 0; MFGPN: RMCF0805ZT0R00
footprint STD_0805_R
footprint 0402 (Chip Capacitor, Body 1.0x0.5mm, IPC High Density)
pins: 1, 2

## RNCF0805DTE10R0
designator R?, comment 10
10 ohm 0805; MFGPN: RNCF0805DTE10R0; Value: 10
footprint STD_0805_R
pins: 1, 2

## RNCP0805FTD1K00
designator R?, comment 1k
1K 1% 1/4W; MFGPN: RNCP0805FTD1K00; Value: 1K
footprint STD_0805_R
pins: 1, 2

## RNCP0805FTD10K0
designator R?, comment 10K
10K 1% 1/4W; Value: 1K; MFGPN: RNCP0805FTD10K0
footprint STD_0805_R
pins: 1, 2

## RR1220P-104-D
designator R?, comment 100K
100K 1% 1/10W; Value: 1K; MFGPN: RR1220P-104-D
footprint STD_0805_R
pins: 1, 2

## RR1220P-104-D_1
designator R??, comment 121
100K 1% 1/10W; Value: 1K; MFGPN: RR1220P-104-D
footprint STD_0805_R
footprint 2512_SMD
pins: 1, 2

## RR1220P-104-D_2
designator R??, comment 2.2K
100K 1% 1/10W; Value: 1K; MFGPN: RR1220P-104-D
footprint STD_0805_R
footprint 2512_SMD
pins: 1, 2

## TL751
designator U?
MFGPN: TL751
footprint TL751 (DPAK, 5-Leads, Body 6.22x6.7mm, Pitch 1.14mm, IPC Low Density)
pins: 1 ~{EN} (in), 2 IN (power), 4 OUT (power), 5 NC, 6 COM (power)

## TP
designator TP?
Test Point
footprint 5017 (KEYSTONE TP GOLD)
pins: 1

## TPS62177DQCT
designator U?
footprint TPS62177
pins: 1 PGND, 2 VIN, 3 EN, 4 NC, 5 FB, 6 AGND, 7 PG, 8 SLEEP, 9 SW, 10 VOS

## UCY2C470MPD
designator C?, comment 47uF
Capacitor, 47uF NICHICON; MFGPN: UCY2C470MPD
footprint UCY2C470MPD
pins: 1, 2

## UVR1V102MHD1TO
designator C?, comment 1000uF
Capacitor, 100uF NICHICON; MFGPN: UVR1V102MHD1TO
footprint UVR1V102MHD1TO
pins: 1, 2

## UVR1V102MHD1TO_1
designator C??, comment 10uF
Capacitor, 100uF NICHICON; MFGPN: UVR1V102MHD1TO
footprint UVR1V102MHD1TO
footprint Tantalum_2917
pins: 1, 2

## Volt Reg
designator VR??
Voltage Regulator; Published: 24-Mar-1999; LatestRevisionDate: 29-May-2009; LatestRevisionNote: IPC-7351 Footprint Added.; PackageReference: D2PAK; Publisher: Altium Limited; PackageDescription: 3-Pin Transistor Outline Package 2.54 mm Pitch, 15.1 mm Lead Span
footprint D2PAK_N (D2-PAK, 4-Leads, Body 8.8x10.4mm, Pitch 2.54mm, Lead Span 15.1mm, IPC Medium Density)
footprint D2PAK_L (D2-PAK, 4-Leads, Body 8.8x10.4mm, Pitch 2.54mm, Lead Span 15.1mm, IPC High Density)
footprint D2PAK_M (D2-PAK, 4-Leads, Body 8.8x10.4mm, Pitch 2.54mm, Lead Span 15.1mm, IPC Low Density)
footprint TO-220-3
pins: 1 Vin, 2 GND, 3 Vout

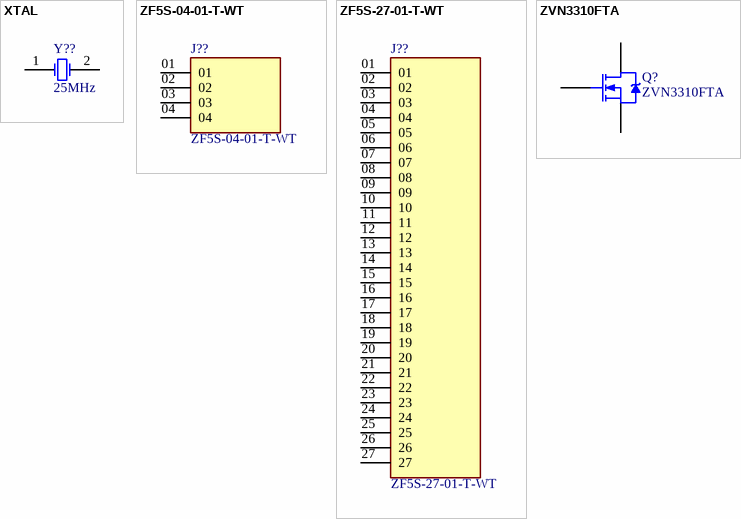
[diagram p2: symbols XTAL to ZVN3310FTA]

## XTAL
designator Y??, comment 25MHz
Crystal Oscillator; Published: 8-Jun-2000; LatestRevisionDate: 17-Jul-2002; LatestRevisionNote: Re-released for DXP Platform.; PackageReference: R38; Publisher: Altium Limited; PackageDescription: Crystal, Thru-Hole; 2 Leads; Body 3.1 x 8.2 mm (Dia.xH)
footprint R38 (Crystal, Thru-Hole; 2 Leads; Body 3.1 x 8.2 mm (Dia.xH))
simulation model XTAL (Spice Subcircuit)
footprint XTAL_ECS-160-20-4X
pins: 1 OSC1, 2 OSC2

## ZF5S-04-01-T-WT
designator J??
Price: None; Availability: Unavailable; MP: ZF5S-04-01-T-WT; Value: *; Package: None
footprint SAMTEC_ZF5S-04-01-T-WT
pins: 01, 02, 03, 04

## ZF5S-27-01-T-WT
designator J??
Package: None; Price: None; Value: *; MP: ZF5S-27-01-T-WT; Availability: Unavailable
footprint SAMTEC_ZF5S-27-01-T-WT
pins: 01, 02, 03, 04, 05, 06, 07, 08, 09, 10, 11, 12, 13, 14, 15, 16, 17, 18, 19, 20, 21, 22, 23, 24, 25, 26, 27

## ZVN3310FTA
designator Q?
N-Channel Power MOSFET; ComponentLink1Description: Manufacturer Link; ComponentLink1URL: http://www.irf.com/; MFGPN: ZVN3310FTA
footprint SOT-23B_M (SOT23, 3-Leads, Body 2.9x1.3mm, Pitch 0.95mm, Lead Span 2.4mm, IPC Low Density)
pins: 1 G, 2 D, 3 S